# Altium footprint library INF-PG-TSDSON-8-32-1-V.PcbLib: 1 footprints
Each footprint in its own frame and in the unit in brackets; x right, y up, seen from the top. Pads: shape width x height; smd on the part's side, far side on the other; paste and mask are expansions set on the pad; w line width, h text height; cw(c..) or ccw(c..) is an arc to the next point about the centre after c.
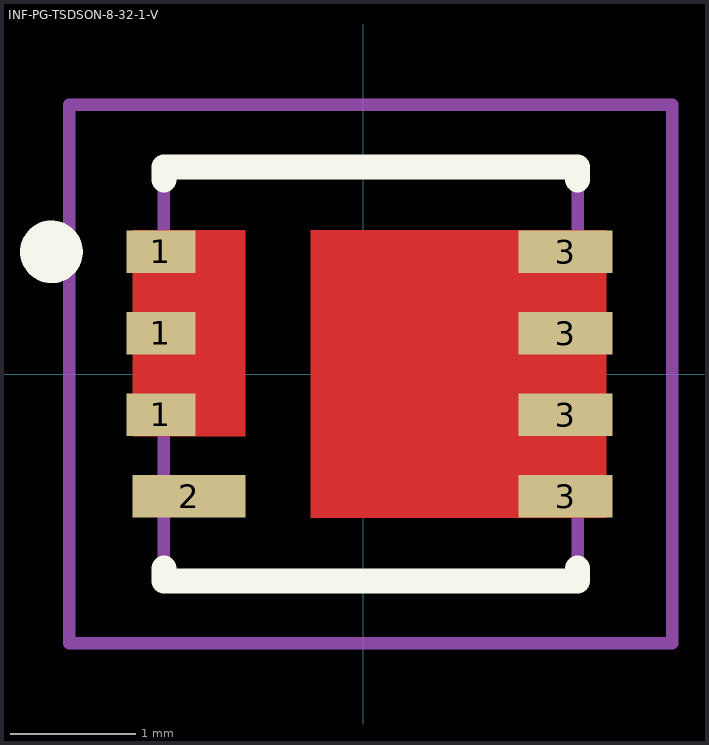
[diagram p0: the footprint, top view; thin cyan lines are the x and y axes]

## INF-PG-TSDSON-8-32-1-V [mm] "TSDSON 8, 0.65mm pitch; 8 pin,3.3mm W X 3.3mm L X 1.15 mm H body"
height 1.15
pads (8):
  rect 0.55x0.34 smd paste-0.45 mask+0: 1(-1.615,0.325) 1(-1.615,0.975) 1(-1.615,-0.325)
  rect 0.9x0.34 smd paste-0.9 mask+0: 2(-1.39,-0.975)
  rect 0.75x0.34 smd paste-0.65 mask+0: 3(1.615,-0.975) 3(1.615,-0.325) 3(1.615,0.325) 3(1.615,0.975)
Top Layer:
  region: -0.94,1.145 -1.84,1.145 -1.84,-0.495 -0.94,-0.495
  region: -0.42,1.145 -0.42,-1.145 1.94,-1.145 1.94,1.145
Top Overlay:
  circle w0.25: c-2.488,0.975 r0.125
  lines w0.2: -1.59,-1.55 -1.59,-1.65 1.71,-1.65 1.71,-1.55 ; -1.59,1.55 -1.59,1.65 1.71,1.65 1.71,1.55
Top Paste:
  drawing of 13 lines, arcs and shapes, not listed
Top Solder:
  region: -0.94,1.145 -1.39,1.145 -1.39,-0.495 -0.94,-0.495
  region: -0.42,1.145 -0.42,-1.145 1.29,-1.145 1.29,1.145
M13 (CMP_Body_OTL_Top):
  lines w0.1: -1.59,-1.65 1.71,-1.65 1.71,1.65 -1.59,1.65 -1.59,-1.65
M15 (CMP_Courtyard_Top):
  lines w0.1: -2.345,-2.15 -2.345,2.15 2.465,2.15 2.465,-2.15 -2.345,-2.15
3D body "PG-TSDSON-8-32_C66065-A3120-C004-01-0004.stp": height 1.06, standoff 0, extent -1.59,-1.65 1.71,1.65